# EAGLE library part LM9061M (library national)
SMD 8 pin Power MOSFET High-Side driver with lossless feedback Suitable for 24V systems and driving paralleled MOSFETS with high gate capacitance
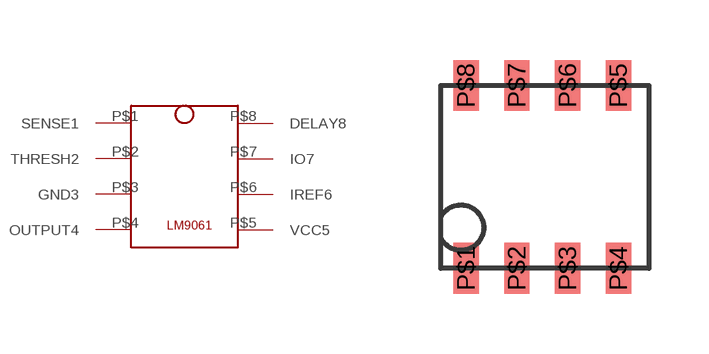
[diagram p0: symbol with the pads of SO8; footprint SO8]

Designator prefix -

## LM9061M  [SO8]
P$1  SENSE1
P$2  THRESH2
P$3  GND3
P$4  OUTPUT4
P$5  VCC5
P$6  IREF6
P$7  IO7
P$8  DELAY8

## Footprint SO8 (pad centres in mm)
SMD SO8 (National package number M08A)
smd 0.635 x 1.27: P$1 -1.905,-2.286; P$2 -0.635,-2.286; P$3 0.635,-2.286; P$4 1.905,-2.286; P$5 1.905,2.286; P$6 0.635,2.286; P$7 -0.635,2.286; P$8 -1.905,2.286